# EAGLE library part KSZ9031RNXCA (library work)
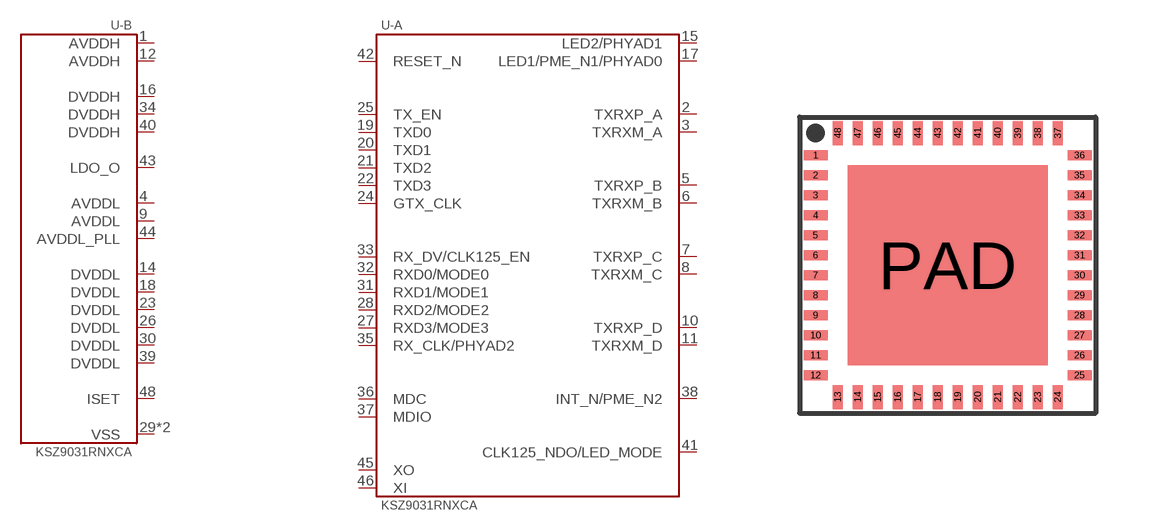
[diagram p67: symbol with the pads of QFN-48; footprint QFN-48]

Designator prefix U; gates -A=KSZ9031RNXCA -B=KSZ9031RNXCA-PWR

## KSZ9031RNXCA  [QFN-48]
1  -B:AVDDH
2  -A:TXRXP_A
3  -A:TXRXM_A
4  -B:AVDDL
5  -A:TXRXP_B
6  -A:TXRXM_B
7  -A:TXRXP_C
8  -A:TXRXM_C
9  -B:AVDDL
10  -A:TXRXP_D
11  -A:TXRXM_D
12  -B:AVDDH
14  -B:DVDDL
15  -A:LED2/PHYAD1
16  -B:DVDDH
17  -A:LED1/PME_N1/PHYAD0
18  -B:DVDDL
19  -A:TXD0
20  -A:TXD1
21  -A:TXD2
22  -A:TXD3
23  -B:DVDDL
24  -A:GTX_CLK
25  -A:TX_EN
26  -B:DVDDL
27  -A:RXD3/MODE3
28  -A:RXD2/MODE2
29  -B:VSS
30  -B:DVDDL
31  -A:RXD1/MODE1
32  -A:RXD0/MODE0
33  -A:RX_DV/CLK125_EN
34  -B:DVDDH
35  -A:RX_CLK/PHYAD2
36  -A:MDC
37  -A:MDIO
38  -A:INT_N/PME_N2
39  -B:DVDDL
40  -B:DVDDH
41  -A:CLK125_NDO/LED_MODE
42  -A:RESET_N
43  -B:LDO_O
44  -B:AVDDL_PLL
45  -A:XO
46  -A:XI
48  -B:ISET
PAD  -B:VSS

## Footprint QFN-48 (pad centres in mm)
smd 0.6 x 0.25: 1 -3.3,2.75; 2 -3.3,2.25; 3 -3.3,1.75; 4 -3.3,1.25; 5 -3.3,0.75; 6 -3.3,0.25; 7 -3.3,-0.25; 8 -3.3,-0.75; 9 -3.3,-1.25; 10 -3.3,-1.75; 11 -3.3,-2.25; 12 -3.3,-2.75; 25 3.3,-2.75; 26 3.3,-2.25; 27 3.3,-1.75; 28 3.3,-1.25; 29 3.3,-0.75; 30 3.3,-0.25; 31 3.3,0.25; 32 3.3,0.75; 33 3.3,1.25; 34 3.3,1.75; 35 3.3,2.25; 36 3.3,2.75
smd 0.25 x 0.6: 13 -2.75,-3.3; 14 -2.25,-3.3; 15 -1.75,-3.3; 16 -1.25,-3.3; 17 -0.75,-3.3; 18 -0.25,-3.3; 19 0.25,-3.3; 20 0.75,-3.3; 21 1.25,-3.3; 22 1.75,-3.3; 23 2.25,-3.3; 24 2.75,-3.3; 37 2.75,3.3; 38 2.25,3.3; 39 1.75,3.3; 40 1.25,3.3; 41 0.75,3.3; 42 0.25,3.3; 43 -0.25,3.3; 44 -0.75,3.3; 45 -1.25,3.3; 46 -1.75,3.3; 47 -2.25,3.3; 48 -2.75,3.3
smd 5 x 5: PAD 0,0